# Altium footprint library new-version.PcbLib: 241 footprints (part 15 of 16)
Each footprint in its own frame and in the unit in brackets; x right, y up, seen from the top. Pads: shape width x height; smd on the part's side, far side on the other; paste and mask are expansions set on the pad; w line width, h text height; cw(c..) or ccw(c..) is an arc to the next point about the centre after c.
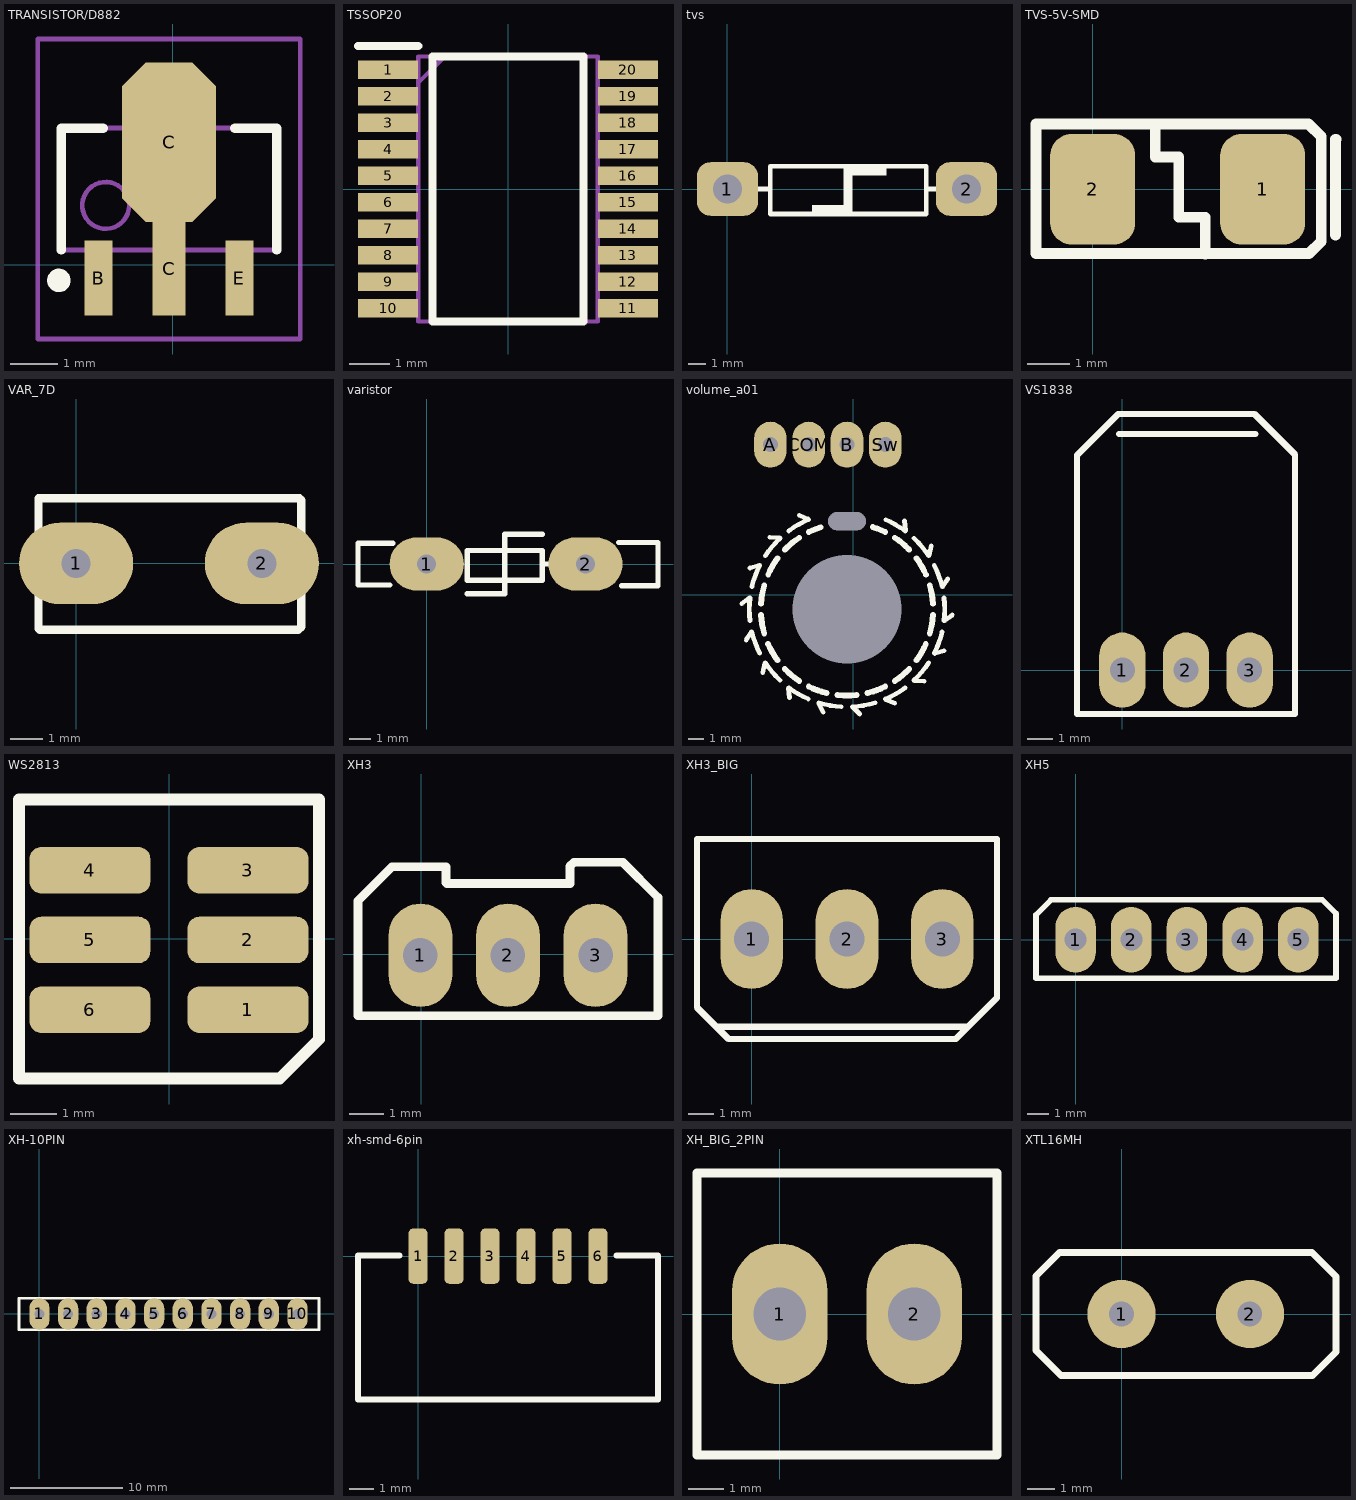
[diagram p14: the footprints below, top view; thin cyan lines are the x and y axes]

## TRANSISTOR/D882 [mm]
pads (4):
  rect 0.6x1.6 smd: B(-1.584,-0.289) E(1.416,-0.289)
  rect 0.7x2 smd: C(-0.084,-0.089)
  oct 2x3.4 smd: C(-0.084,2.611)
Top Overlay:
  circle w0.25: c-2.434,-0.339 r0.125
  lines w0.2: -2.384,0.311 -2.384,2.911 -1.484,2.911 ; 1.316,2.911 2.216,2.911 2.216,0.311
Mechanical 13:
  circle w0.1: c-1.434,1.261 r0.5
  lines w0.1: -2.384,0.311 2.216,0.311 2.216,2.911 -2.384,2.911 -2.384,0.311
Mechanical 15:
  lines w0.1: -0.584,1.611 0.416,1.611 ; -0.084,1.111 -0.084,2.111 ; -2.884,-1.589 2.716,-1.589 2.716,4.811 -2.884,4.811 -2.884,-1.589
3D body: height 1.6, standoff 0, extent -2.384,0.311 2.216,2.911

## TSSOP20 [mm]
pads (20):
  rect 1.475x0.45 smd: 1(-2.938,2.925) 2(-2.938,2.275) 3(-2.938,1.625) 4(-2.938,0.975) 5(-2.938,0.325) 6(-2.938,-0.325) 7(-2.938,-0.975) 8(-2.938,-1.625) 9(-2.938,-2.275) 10(-2.938,-2.925) 11(2.938,-2.925) 12(2.938,-2.275) 13(2.938,-1.625) 14(2.938,-0.975) 15(2.938,-0.325) 16(2.938,0.325) 17(2.938,0.975) 18(2.938,1.625) 19(2.938,2.275) 20(2.938,2.925)
Top Overlay:
  lines w0.2: -3.675,3.5 -2.2,3.5 ; -1.85,-3.25 1.85,-3.25 1.85,3.25 -1.85,3.25 -1.85,-3.25
Mechanical 15:
  lines w0.1: -2.2,2.6 -1.55,3.25 ; -2.2,-3.25 2.2,-3.25 2.2,3.25 -2.2,3.25 -2.2,-3.25

## tvs [mm]
pads (2):
  rrect50% 3.4x3 hole 1.6: 1(0,0) 2(13.353,0)
Top Overlay:
  rectangle: 6.477,-1.395 6.985,1.27
  rectangle: 4.721,-1.395 6.753,-0.887
  rectangle: 6.858,0.762 8.89,1.27
  lines w0.254: 0,0 2.402,0 ; 2.402,-1.395 11.104,-1.395 11.104,1.27 2.402,1.27 2.402,-1.349 ; 11.104,0 13.353,0

## TVS-5V-SMD [mm]
pads (2):
  rrect50% 2x2.6 smd: 1(4,0) 2(0,0)
Top Overlay:
  lines w0.254: 1.872,1.538 1.471,1.538 1.471,0.762 2.027,0.762 2.027,0.723 2.027,-0.66 2.647,-0.66 2.647,-1.526 ; 5.712,-1.074 5.712,1.176 5.725,1.176 ; -1.334,-1.514 5.091,-1.514 5.376,-1.229 5.376,1.24 5.078,1.538 -1.334,1.538 -1.334,-1.514
3D body "SMBJ 28CA.STEP": height 2.43, standoff -0.01, extent -0.659,-1.79 4.739,1.83

## VAR_7D [mm]
pads (2):
  oval 3.5x2.5 hole 0.9: 1(0,0) 2(5.7,0)
Top Overlay:
  lines w0.254: 5.461,0 7.112,0 ; -1.15,-2 -1.15,2 6.85,2 6.909,1.941 6.909,-1.941 6.818,-2.032 -1.118,-2.032 -1.15,-2

## varistor [mm]
pads (2):
  oval 3.5x2.5 hole 0.9: 1(0,0) 2(7.493,0)
Top Overlay:
  lines w0.254: -1.743,-0.99 -3.241,-0.99 -3.241,0.978 -1.609,0.978 ; 1.905,-1.397 3.683,-1.397 3.683,1.397 5.461,1.397 ; 5.461,0 7.112,0 ; 9.058,1.012 10.914,1.012 10.914,-1.034 9.203,-1.034 ; 1.905,-0.762 1.905,0.635 5.461,0.635 5.461,-0.762 1.905,-0.762
Bottom Overlay:
  lines w0.254: 0,0 1.905,0
3D body "varistor-v1.stp": height 16.4, standoff -2.6, extent -3.062,-1.016 10.936,0.984

## volume_a01 [mil]
pads (6):
  round 0 hole 283.46: 4(-15.91,-37.58)
  round 0 hole 47.24 slot 98.43 at 0 deg: 10(-15.91,192.42)
  oval 85x120 hole 39.37: A(-215.91,392.42) B(-15.91,392.42) COM(-115.91,392.42) Sw(84.09,392.42)
Top Overlay:
  lines w12: -279.35,-117.85 -265.8,-96.61 ; -269.31,70.26 -245.27,77.82 ; -264.13,-96 ccw(c-15.91,-37.58) -243.7,-152.2 ; -264.08,21.04 cw(c-15.91,-37.58) -243.61,77.22 ; -236.01,-203.11 -230.54,-178.51 ; -229.18,-177.37 ccw(c-15.91,-37.58) -190.76,-223.2 ; -229.07,102.38 cw(c-15.91,-37.58) -190.61,148.17 ; -217.14,150.42 -191.97,149.31 ; -169.39,-243.42 -166.12,-268.4 ; -168.51,-241.89 ccw(c-15.91,-37.58) -116.74,-271.8 ; -168.34,166.84 cw(c-15.91,-37.58) -116.55,196.72 ; -140.71,207.91 -117.43,198.25 ; -89.74,-283.5 -78.12,-305.86 ; -89.43,-281.76 ccw(c-15.91,-37.58) -30.55,-292.16 ; -1.48,-292.17 ccw(c-15.91,-37.58) 57.41,-281.82 ; -1.18,-293.92 17.39,-310.95 ; 84.72,-271.89 ccw(c-15.91,-37.58) 136.52,-242.01 ; 84.91,196.64 cw(c-15.91,-37.58) 136.68,166.72 ; 85.61,-273.42 108.88,-283.08 ; 134.29,193.24 137.57,168.25 ; 158.79,-223.34 ccw(c-15.91,-37.58) 197.24,-177.55 ; 158.94,148.03 cw(c-15.91,-37.58) 197.36,102.21 ; 160.14,-224.47 185.32,-225.59 ; 198.71,103.35 204.18,127.94 ; 211.78,-152.38 ccw(c-15.91,-37.58) 232.26,-96.2 ; 211.88,77.03 cw(c-15.91,-37.58) 232.31,20.84 ; 213.45,-152.99 237.48,-145.43 ; 233.97,21.44 247.52,42.68 ; 237.32,-67.58 ccw(c-15.91,-37.58) 237.34,-7.79 ; 239.09,-67.58 259.09,-52.26 ; -290.91,-22.91 -270.91,-7.58 -290.91,-22.91 ; -269.17,-67.38 cw(c-15.91,-37.58) -269.14,-7.58 ccw(c-15.91,-37.58) -269.17,-67.38
  lines w15: -239.01,-8.38 cw(c-15.91,-37.58) -231.9,25.45 ; -238.87,-67.87 ccw(c-15.91,-37.58) -231.91,-100.58 ; -221.89,-128.13 ccw(c-15.91,-37.58) -205.59,-158.62 ; -221.87,53 cw(c-15.91,-37.58) -206.17,82.53 ; -215.57,66.16 cw(c-15.91,-37.58) -197.32,95.52 ; -215.06,-142.29 ccw(c-15.91,-37.58) -197.34,-170.66 ; -178.5,-193.12 ccw(c-15.91,-37.58) -152.75,-216.19 ; -178.47,117.98 cw(c-15.91,-37.58) -153.62,140.36 ; -168.04,128.19 cw(c-15.91,-37.58) -140.86,149.54 ; -167.24,-204.09 ccw(c-15.91,-37.58) -140.88,-224.69 ; -115.49,-239.35 ccw(c-15.91,-37.58) -83.41,-252.22 ; -115.47,164.19 cw(c-15.91,-37.58) -84.45,176.72 ; -101.16,-245.81 ccw(c-15.91,-37.58) -69.35,-256.14 ; -40.48,-261.24 ccw(c-15.91,-37.58) -5.93,-262.36 ; -40.45,186.08 cw(c-15.91,-37.58) -7.02,187.24 ; -25.89,187.2 cw(c-15.91,-37.58) 8.65,186.07 ; -24.8,-262.41 ccw(c-15.91,-37.58) 8.62,-261.24 ; 37.5,-256.15 ccw(c-15.91,-37.58) 70.34,-245.39 ; 51.59,177.05 cw(c-15.91,-37.58) 83.67,164.18 ; 52.63,-251.89 ccw(c-15.91,-37.58) 83.64,-239.36 ; 109.03,-224.7 ccw(c-15.91,-37.58) 136.22,-203.36 ; 109.06,149.52 cw(c-15.91,-37.58) 135.41,128.93 ; 120.93,141.02 cw(c-15.91,-37.58) 146.67,117.95 ; 121.79,-215.52 ccw(c-15.91,-37.58) 146.65,-193.14 ; 165.49,-170.69 ccw(c-15.91,-37.58) 183.74,-141.33 ; 165.51,95.5 cw(c-15.91,-37.58) 183.24,67.13 ; 173.76,83.45 cw(c-15.91,-37.58) 190.06,52.97 ; 174.34,-157.7 ccw(c-15.91,-37.58) 190.05,-128.16 ; 200.08,-100.61 ccw(c-15.91,-37.58) 207.18,-66.79 ; 200.09,25.42 cw(c-15.91,-37.58) 207.04,-7.3 ; 203.72,11.28 cw(c-15.91,-37.58) 208.61,-22.94 ; 203.95,-85.38 ccw(c-15.91,-37.58) 208.61,-52.26 ; -240.44,-52.23 ccw(c-15.91,-37.58) -235.54,-86.44 cw(c-15.91,-37.58) -240.44,-52.23 ; -240.43,-22.91 cw(c-15.91,-37.58) -235.78,10.21 ccw(c-15.91,-37.58) -240.43,-22.91
Bottom Overlay:
  lines w15: 144.09,387.42 144.09,422.42 ccw(c94.09,422.42) 94.09,472.42 -225.91,472.42 ccw(c-225.91,422.42) -275.91,422.42 -275.91,362.42 ccw(c-225.91,362.42) -225.91,312.42 94.09,312.42 ccw(c94.09,362.42) 144.09,362.42 144.09,412.42

## VS1838 [mm]
pads (3):
  oval 1.85x3 hole 1: 1(0,0) 2(2.54,0) 3(5.08,0)
Top Overlay:
  lines w0.254: -0.129,9.423 5.31,9.423 ; -1.809,-1.751 -1.809,1.582 -1.809,8.579 -0.167,10.222 5.272,10.222 6.891,8.603 6.891,-1.751 -1.809,-1.751

## WS2813 [mm]
pads (6):
  rrect50% 2.6x1 smd: 1(1.698,-1.524) 2(1.698,-0.024) 3(1.698,1.476) 4(-1.702,1.476) 5(-1.702,-0.024) 6(-1.702,-1.524)
Top Overlay:
  lines w0.254: -3.226,-3.003 2.382,-3.003 3.226,-2.159 3.226,2.997 -3.226,2.997 -3.226,-3.003

## XH3 [mm]
pads (3):
  oval 1.85x3 hole 1: 1(-0.024,-0.024) 2(2.516,-0.024) 3(5.056,-0.024)
Top Overlay:
  lines w0.254: -1.833,-1.776 6.866,-1.776 6.866,1.653 5.849,2.671 4.429,2.671 4.311,2.553 4.311,2.058 0.739,2.058 0.718,2.079 0.718,2.545 -0.846,2.545 -1.833,1.558 -1.833,-1.776

## XH3_BIG [mm]
pads (3):
  oval 2.5x4 hole 1.4: 1(0,0) 2(3.81,0) 3(7.62,0)
Top Overlay:
  lines w0.254: -1.346,-3.505 8.585,-3.505 ; -2.19,-2.738 -0.928,-4 8.167,-4 9.81,-2.357 9.81,4 -2.19,4 -2.19,-2.738

## XH5 [mm]
pads (5):
  oval 1.85x3 hole 1: 1(-0.003,0) 2(2.537,0) 3(5.077,0) 4(7.617,0) 5(10.157,0)
Top Overlay:
  lines w0.254: -1.813,-1.751 -1.813,1.131 -1.13,1.814 11.259,1.814 11.878,1.195 11.878,-1.751 -1.813,-1.751

## XH-10PIN [mm]
pads (10):
  oval 1.8x2.8 hole 0.9: 1(0,0) 2(2.54,0) 3(5.08,0) 4(7.62,0) 5(10.16,0) 6(12.7,0) 7(15.24,0) 8(17.78,0) 9(20.32,0) 10(22.86,0)
Top Overlay:
  lines w0.254: -1.809,-1.397 -1.809,1.397 24.765,1.397 24.765,-1.397 -1.809,-1.397

## xh-smd-6pin [mm]
pads (6):
  rrect50% 0.8x2.3 smd: 1(0,0) 2(1.5,0) 3(3,0) 4(4.5,0) 5(6,0) 6(7.5,0)
Top Overlay:
  lines w0.254: -0.768,0.031 -2.5,0.031 -2.5,-5.969 10,-5.969 10,0.031 8.268,0.031

## XH_BIG_2PIN [mm]
pads (2):
  oval 2.7x4 hole 1.5: 1(0,0) 2(3.81,0)
Top Overlay:
  lines w0.254: -2.345,-4 -2.345,4 6.155,4 6.155,-4 -2.345,-4

## XTL16MH [mm]
pads (2):
  round 2.5 hole 0.9: 1(0,0) 2(4.7,0)
Top Overlay:
  lines w0.254: -3.13,-1.336 -2.216,-2.25 6.994,-2.25 7.85,-1.394 7.85,1.379 6.979,2.25 -2.276,2.25 -3.13,1.396 -3.13,-1.336